# Altium schematic symbol library SCH - POWER - SWITCHMODE - TI TPS610986DSE.SchLib: 1 symbol
Pins are listed as number, name and electrical type; pins without a type are passive.

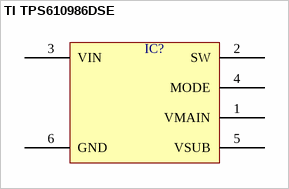
[diagram p0: symbol TI TPS610986DSE]

## TI TPS610986DSE
designator IC?  (value not drawn)
pins: 1 VMAIN, 2 SW, 3 VIN, 4 MODE, 5 VSUB, 6 GND